# Altium footprint library PCB - POWER INDUCTORS - COILCRAFT XAL40xx.PcbLib: 1 footprints
Each footprint in its own frame and in the unit in brackets; x right, y up, seen from the top. Pads: shape width x height; smd on the part's side, far side on the other; paste and mask are expansions set on the pad; w line width, h text height; cw(c..) or ccw(c..) is an arc to the next point about the centre after c.
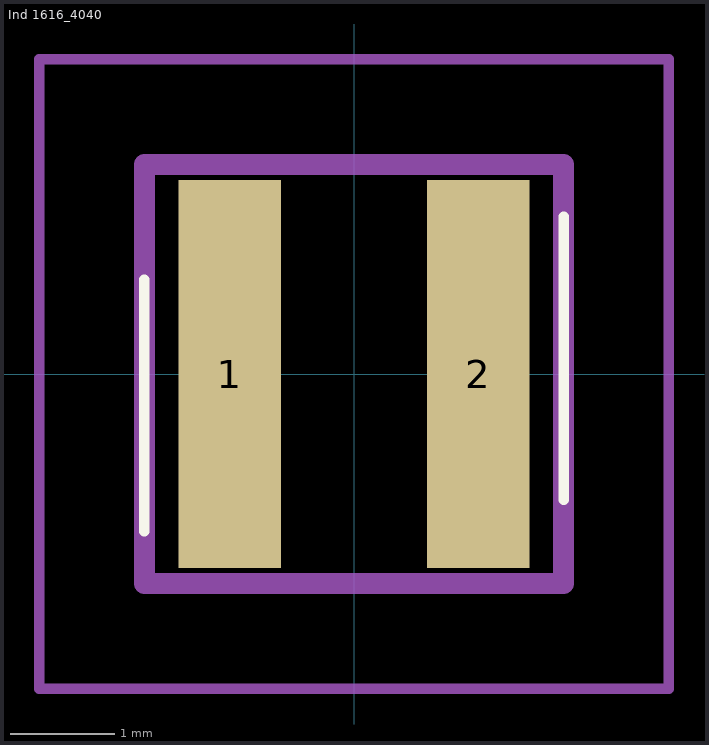
[diagram p0: the footprint, top view; thin cyan lines are the x and y axes]

## Ind 1616_4040 [mm]
pads (2):
  rect 0.98x3.7 smd: 1(-1.185,0) 2(1.185,0)
Top Overlay:
  lines w0.1: -2,-1.5 -2,0.9 ; 2,-1.2 2,1.5
Mechanical 13:
  lines w0.2: -2,-2 -2,2 2,2 2,-2 -2,-2
Mechanical 15:
  lines w0.1: -3,-3 -3,3 3,3 3,-3 -3,-3
3D body "XAL4040-153MEC.stp": height 4.2, standoff 0, extent -2,-2 2,2